# Altium footprint library C655_Main_Board_200210.PcbLib: 23 footprints (part 2 of 2)
Each footprint in its own frame and in the unit in brackets; x right, y up, seen from the top. Pads: shape width x height; smd on the part's side, far side on the other; paste and mask are expansions set on the pad; w line width, h text height; cw(c..) or ccw(c..) is an arc to the next point about the centre after c.
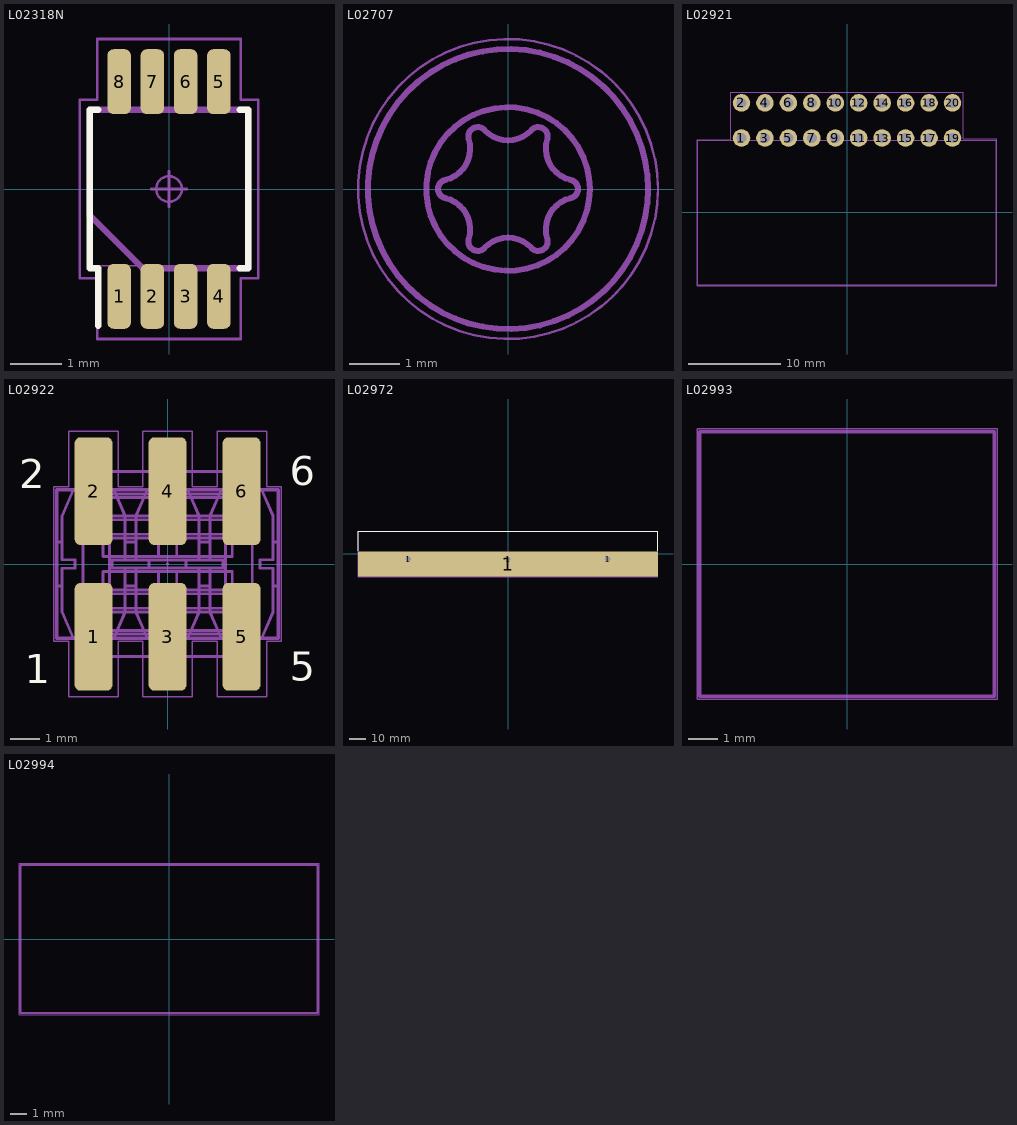
[diagram p1: the footprints below, top view; thin cyan lines are the x and y axes]

## L02318N [mm] "SOP8P65_300X490X110L55X31N"
height 1.1
pads (8):
  rrect52% 0.46x1.27 smd: 1(-0.975,-2.1) 2(-0.325,-2.1) 3(0.325,-2.1) 4(0.975,-2.1) 5(0.975,2.1) 6(0.325,2.1) 7(-0.325,2.1) 8(-0.975,2.1)
Top Overlay:
  lines w0.12: -1.385,-2.675 -1.385,-1.55 -1.55,-1.55 -1.55,1.55 -1.385,1.55 ; 1.385,-1.55 1.55,-1.55 1.55,1.55 1.385,1.55
Top Assembly (Mech13):
  lines w0.12: -1.55,-0.517 -0.517,-1.55 1.55,-1.55 1.55,1.55 -1.55,1.55 -1.55,-0.517
  text ".Designator" at -2.2,-0.236 h1
Top Courtyard (Mech15):
  circle w0.05: c0,0 r0.25
  lines w0.05: -0.35,0 0.35,0 ; 0,-0.35 0,0.35 ; -1.75,-1.75 -1.75,1.75 -1.405,1.75 -1.405,2.935 1.405,2.935 1.405,1.75 1.75,1.75 1.75,-1.75 1.405,-1.75 1.405,-2.935 -1.405,-2.935 -1.405,-1.75 -1.75,-1.75
Mechanical 31:
  lines w0.025: -1.5,-1.5 -1.5,1.5 1.5,1.5 1.5,-1.5 -1.5,-1.5 ; -1.132,-2.45 -0.817,-2.45 -0.817,-1.9 -1.132,-1.9 -1.132,-2.45 ; -1.132,1.9 -0.817,1.9 -0.817,2.45 -1.132,2.45 -1.132,1.9 ; -0.483,-2.45 -0.168,-2.45 -0.168,-1.9 -0.483,-1.9 -0.483,-2.45 ; -0.483,1.9 -0.168,1.9 -0.168,2.45 -0.483,2.45 -0.483,1.9 ; 0.168,-2.45 0.483,-2.45 0.483,-1.9 0.168,-1.9 0.168,-2.45 ; 0.168,1.9 0.483,1.9 0.483,2.45 0.168,2.45 0.168,1.9 ; 0.817,-2.45 1.132,-2.45 1.132,-1.9 0.817,-1.9 0.817,-2.45 ; 0.817,1.9 1.132,1.9 1.132,2.45 0.817,2.45 0.817,1.9
3D body "SOP8P65_300X490X110L55X31.STEP": height 1.1, standoff 0, extent -1.55,-2.525 1.55,2.525

## L02707 [mm] "Screw M3x8"
Top Assembly (Mech13):
  circle w0.12: c0,0 r1.636
  circle w0.12: c0,0 r2.8
  lines w0.12: -1.255,-0.183 cw(c-1.212,0) -1.255,0.183 ccw(c-1.4,0.808) -0.786,0.995 cw(c-0.606,1.05) -0.469,1.178 ccw(c0,1.617) 0.469,1.178 cw(c0.606,1.05) 0.786,0.995 ccw(c1.4,0.808) 1.255,0.183 cw(c1.212,0) 1.255,-0.183 ccw(c1.4,-0.808) 0.786,-0.995 cw(c0.606,-1.05) 0.469,-1.178 ccw(c0,-1.617) -0.469,-1.178 cw(c-0.606,-1.05) -0.786,-0.995 ccw(c-1.4,-0.808) -1.255,-0.183
  text ".Designator" at -3.3,3.1 h1.5
Top Courtyard (Mech15):
  circle w0.05: c0,0 r3

## L02921 [mm]
height 9.5
pads (20):
  round 1.9 hole 1.1: 1(-11.43,8.05) 2(-11.43,11.86) 3(-8.89,8.05) 4(-8.89,11.86) 5(-6.35,8.05) 6(-6.35,11.86) 7(-3.81,8.05) 8(-3.81,11.86) 9(-1.27,8.05) 10(-1.27,11.86) 11(1.27,8.05) 12(1.27,11.86) 13(3.81,8.05) 14(3.81,11.86) 15(6.35,8.05) 16(6.35,11.86) 17(8.89,8.05) 18(8.89,11.86) 19(11.43,8.05) 20(11.43,11.86)
Top Assembly (Mech13):
  lines w0.12: -16.15,-7.85 -16.15,7.825 16.15,7.825 16.15,-7.85 -16.15,-7.85
  text ".Designator" at -4.4,-0.8 h2
Top Courtyard (Mech15):
  lines w0.05: -16.25,-7.95 -16.25,7.85 -12.6,7.85 -12.6,13 12.6,13 12.6,7.95 16.25,7.95 16.25,-7.95 -16.25,-7.95
3D body "c-5650118-2-a-3d.stp": height 9.37, standoff -2.26, extent -16.002,-7.75 16.002,12.176

## L02922 [mm]
height 12
pads (6):
  rrect30% 1.3x3.7 smd: 1(-2.54,-2.5) 2(-2.54,2.5) 3(0,-2.5) 4(0,2.5) 5(2.54,-2.5) 6(2.54,2.5)
Top Overlay:
  text "6" at 4.2,2.7 h1
  text "5" at 4.2,-4 h1
  text "2" at -5.1,2.6 h1
  text "1" at -4.9,-4.1 h1
Top Assembly (Mech13):
  lines w0.12: -2.87,-2.55 -2.87,-3.7 -2.21,-3.7 -2.21,-2.55 ; -2.87,2.55 -2.87,3.7 -2.21,3.7 -2.21,2.55 ; -0.33,-2.55 -0.33,-3.7 0.33,-3.7 0.33,-2.55 ; -0.33,2.55 -0.33,3.7 0.33,3.7 0.33,2.55 ; 2.21,-2.55 2.21,-3.7 2.87,-3.7 2.87,-2.55 ; 2.21,2.55 2.21,3.7 2.87,3.7 2.87,2.55 ; -3.8,-2.55 3.8,-2.55 3.8,2.55 -3.8,2.55 -3.8,-2.55 ; -2.857,-1.587 -2.857,-0.953 -2.222,-0.953 -2.222,-1.587 -2.857,-1.587 ; -2.857,0.953 -2.857,1.587 -2.222,1.587 -2.222,0.953 -2.857,0.953 ; -0.318,-1.587 -0.318,-0.953 0.318,-0.953 0.318,-1.587 -0.318,-1.587 ; -0.318,0.953 -0.318,1.587 0.318,1.587 0.318,0.953 -0.318,0.953 ; 2.222,-1.587 2.222,-0.953 2.857,-0.953 2.857,-1.587 2.222,-1.587 ; 2.222,0.953 2.222,1.587 2.857,1.587 2.857,0.953 2.222,0.953
  text "5" at 4,-3.8 h1.5
  text "6" at 4,2.8 h1.5
  text "2" at -4.5,2.8 h1.5
  text "1" at -4.5,-3.8 h1.5
  text ".Designator" at -3.3,-0.6 h1.5
Top Courtyard (Mech15):
  lines w0.05: -3.9,-2.65 -3.4,-2.65 -3.4,-4.55 -1.7,-4.55 -1.7,-2.65 -0.85,-2.65 -0.85,-4.55 0.85,-4.55 0.85,-2.65 1.7,-2.65 1.7,-4.55 3.4,-4.55 3.4,-2.65 3.9,-2.65 3.9,2.65 3.4,2.65 3.4,4.55 1.7,4.55 1.7,2.65 0.85,2.65 0.85,4.55 -0.85,4.55 -0.85,2.65 -1.7,2.65 -1.7,4.55 -3.4,4.55 -3.4,2.65 -3.9,2.65 -3.9,-2.65
Mechanical 31:
  drawing of 164 lines, arcs and shapes, not listed
3D body "TSM-103-02-T-DV-P-TR.stp": height 10.67, standoff -2.54, extent -3.81,-3.721 3.81,3.721

## L02972 [mm]
height 100
pads (4):
  round 6.2 hole 3.2: 1(-60,-3.1) 1(0,-3.1) 1(60,-3.1)
  rrect1% 180.2x15 smd: 1(0,-6.1)
Top Overlay:
  lines w0.1: -90,2 -90,13.5 90,13.5 90,2
Top Assembly (Mech13):
  lines w0.12: -90,-13.5 -90,13.5 90,13.5 90,-13.5 -90,-13.5
  text ".Designator" at -4.4,-0.8 h2
Top Courtyard (Mech15):
  lines w0.05: -90.2,-13.7 -90.2,13.6 90.2,13.6 90.2,-13.7 -90.2,-13.7
3D body "L98 P01A BS273 Aavid.STEP": height 100, standoff 0, extent -89.9,-13.2 90.1,13.65

## L02993 [mm] "Clip TO220"
Top Assembly (Mech13):
  lines w0.12: -5,-4.5 -5,4.5 5,4.5 5,-4.5 -5,-4.5
  text ".Designator" at -3.3,-0.596 h1.5
Top Courtyard (Mech15):
  lines w0.05: -5.1,-4.6 5.1,-4.6 5.1,4.6 -5.1,4.6 -5.1,-4.6

## L02994 [mm] "Clip TO247"
Top Assembly (Mech13):
  lines w0.12: -9,-4.5 -9,4.5 9,4.5 9,-4.5 -9,-4.5
  text ".Designator" at -3.3,-0.596 h1.5
Top Courtyard (Mech15):
  lines w0.05: -9.1,-4.6 9.1,-4.6 9.1,4.6 -9.1,4.6 -9.1,-4.6